# Altium footprint library Robot.PcbLib: 27 footprints (part 1 of 2)
Each footprint in its own frame and in the unit in brackets; x right, y up, seen from the top. Pads: shape width x height; smd on the part's side, far side on the other; paste and mask are expansions set on the pad; w line width, h text height; cw(c..) or ccw(c..) is an arc to the next point about the centre after c.
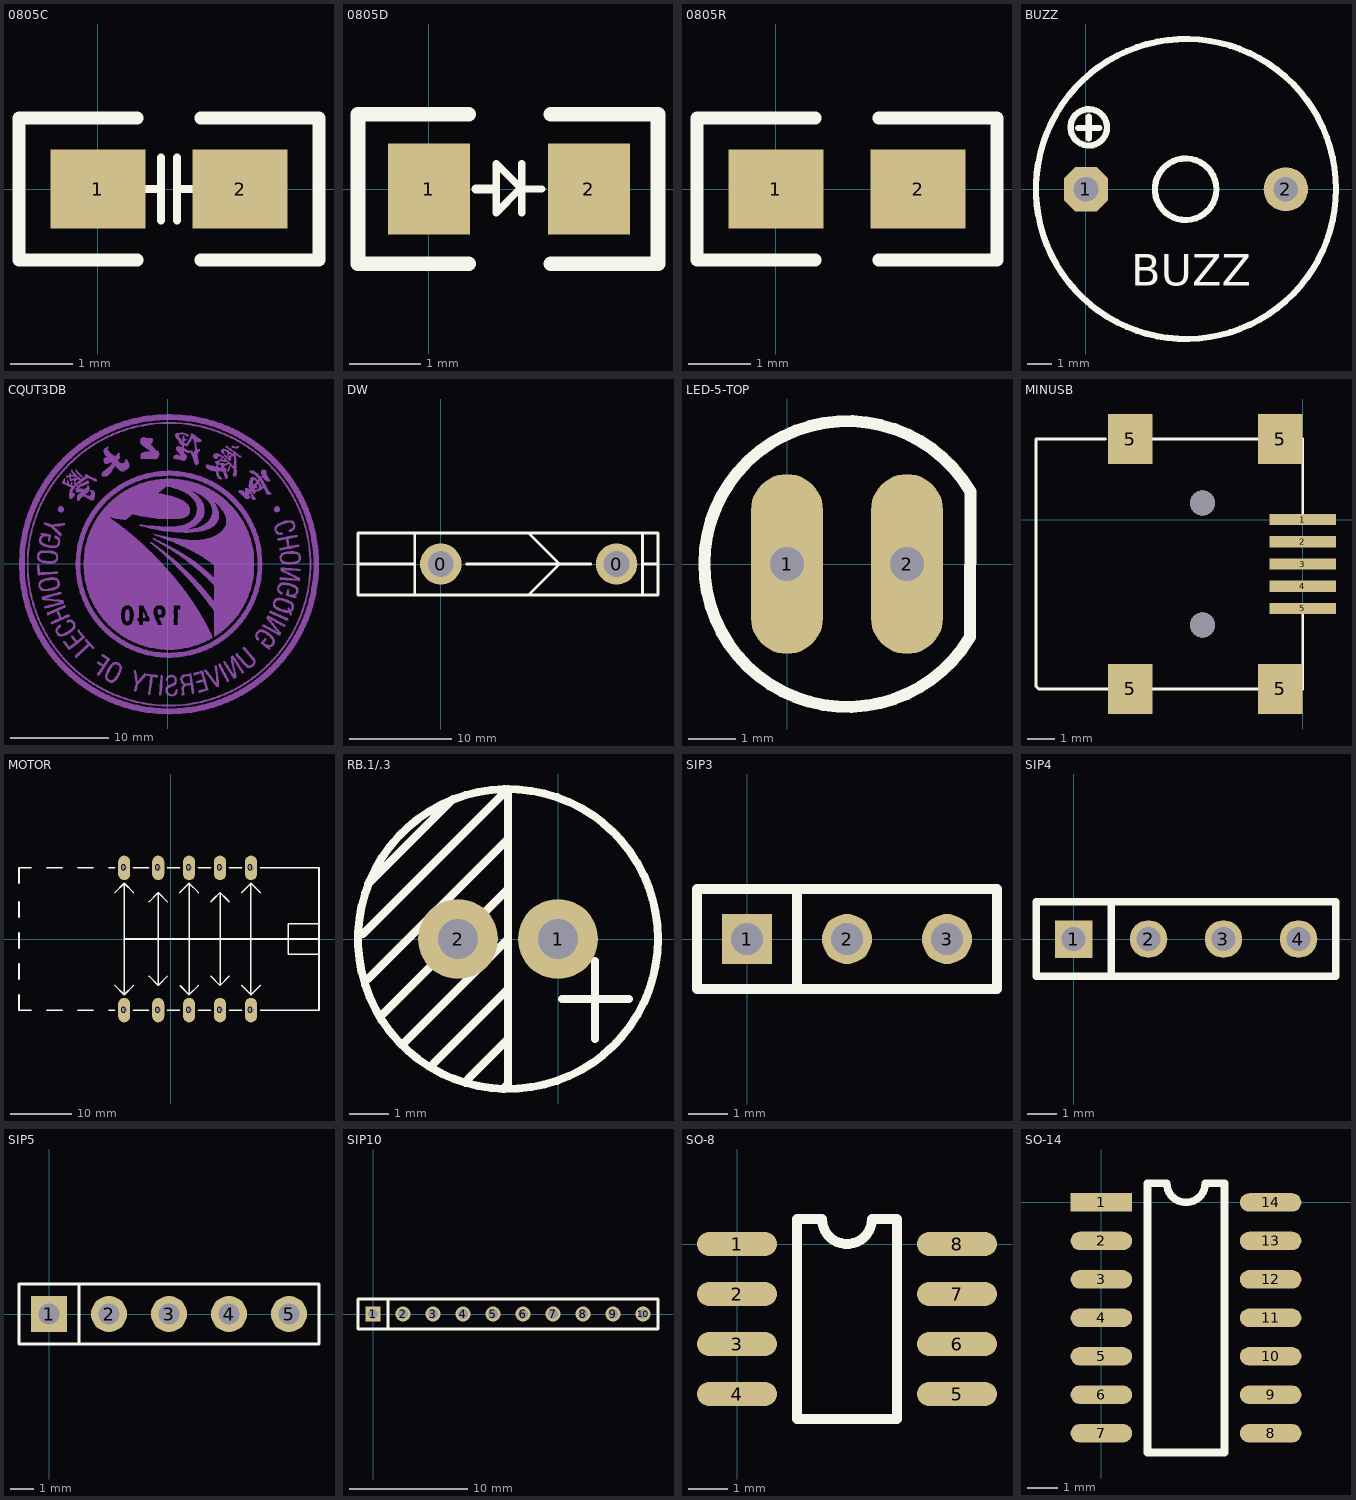
[diagram p0: the footprints below, top view; thin cyan lines are the x and y axes]

## 0805C [mil]
pads (2):
  rect 60x50 smd: 1(0,0) 2(90,0)
Top Overlay:
  lines w5: 30,0 40,0 ; 40,-20 40,20 ; 50,-20 50,20 ; 50,0 60,0
  lines w8: 25,-45 -50,-45 -50,45 25,45 ; 65,-45 140,-45 140,45 65,45

## 0805D [mil]
pads (2):
  rect 45x50 smd: 1(0,0) 2(88,0)
Top Overlay:
  lines w4: 51,-13 51,14 ; 62,0 51,0 ; 51,0 50,0 37,-13 37,14 51,0
  lines w5: 26,0 36,0
  lines w8: 22,-41 -39,-41 -39,41 22,41 ; 67,-41 126,-41 126,41 67,41

## 0805R [mil]
pads (2):
  rect 60x50 smd: 1(0,0) 2(90,0)
Top Overlay:
  lines w8: 25,-45 -50,-45 -50,45 25,45 ; 65,-45 140,-45 140,45 65,45

## BUZZ [mm]
pads (2):
  oct 1.8x1.8 hole 1: 1(0,0)
  round 1.8 hole 1: 2(8.128,0)
Top Overlay:
  circle w0.254: c4.053,0 r1.251
  circle w0.254: c4.067,0.011 r6.1
  circle w0.254: c0.115,2.518 r0.741
  lines w0.254: -0.317,2.492 0.546,2.492 ; 0.115,2.06 0.115,2.949
  text "BUZZ" at 1.838,-3.923 h1.27

## CQUT3DB [mil]
Bottom Overlay:
  drawing of 8113 lines, arcs and shapes, not listed

## DW [mil]
pads (2):
  round 160 hole 100: 0(0,0) 0(680,0)
Top Overlay:
  lines w10: -320,0 -100,0 ; -100,-120 -100,0 ; -100,120 -100,0 ; 100,0 580,0 ; 340,-120 460,0 340,120 ; 780,0 840,0 ; 780,-120 840,-120 840,120 780,120 ; 780,-120 780,120 ; 780,-120 680,-120 0,-120 -320,-120 -320,120 0,120 680,120 780,120

## LED-5-TOP [mil]
pads (2):
  oval 60x150 hole 28: 1(0,0) 2(100,0)
Top Overlay:
  lines w10: 152.53,-60.92 cw(c50.2,0) 152.84,60.4 152.53,-60.91

## MINUSB [mm]
pads (9):
  rect 2.4x0.4 smd: 1(0,0) 2(0,-0.8) 3(0,-1.6) 4(0,-2.4) 5(0,-3.2)
  rect 1.6x1.8 smd: 5(-6.2,-6.1) 5(-6.2,2.9) 5(-0.8,-6.1) 5(-0.8,2.9)
via -3.6,0.6 diameter 0.9 hole 0.9
via -3.6,-3.8 diameter 0.9 hole 0.9
Top Overlay:
  lines w0.1: -7.1,2.9 -9.6,2.9 -9.6,-6 -9.5,-6.1 -7,-6.1 ; -5.4,-6.1 -1.6,-6.1 ; -5.4,2.9 -1.6,2.9 ; 0,-6.1 0,-3.4 ; 0,0.2 0,2.9

## MOTOR [mm]
pads (10):
  oval 2x4 hole 1: 0(-7.62,-11.684) 0(-7.62,11.684) 0(-2.032,-11.684) 0(-2.032,11.684) 0(3.048,-11.684) 0(3.048,11.684) 0(8.128,-11.684) 0(8.128,11.684) 0(13.208,-11.684) 0(13.208,11.684)
Top Overlay:
  lines w0.254: -24.892,-9.144 -24.892,-11.684 -22.86,-11.684 ; -24.892,-6.604 -24.892,-4.064 ; -24.892,-1.524 -24.892,1.016 ; -24.892,3.556 -24.892,6.096 ; -24.892,9.144 -24.892,11.684 -22.86,11.684 ; -20.32,-11.684 -17.78,-11.684 ; -20.32,11.684 -17.78,11.684 ; -15.24,-11.684 -12.7,-11.684 ; -15.24,11.684 -12.7,11.684 ; -10.16,-11.684 -9.144,-11.684 ; -10.16,11.684 -9.144,11.684 ; -9.144,-7.62 -7.62,-9.144 ; -9.144,7.62 -7.62,9.144 ; -7.62,0 24.384,0 ; -6.096,-11.684 -3.556,-11.684 ; -6.096,-7.62 -7.62,-9.144 ; -6.096,7.62 -7.62,9.144 ; -6.096,11.684 -3.556,11.684 ; -3.556,-6.096 -2.032,-7.62 ; -3.556,6.096 -2.032,7.62 ; -0.508,-11.684 1.524,-11.684 ; -0.508,-6.096 -2.032,-7.62 ; -0.508,6.096 -2.032,7.62 ; -0.508,11.684 1.524,11.684 ; 1.524,7.62 3.048,9.144 ; 1.587,-7.683 3.048,-9.144 ; 2.985,-10.097 3.111,-10.097 ; 4.572,-11.684 6.604,-11.684 ; 4.572,-7.62 3.048,-9.144 ; 4.572,7.62 3.048,9.144 ; 4.572,11.684 6.604,11.684 ; 6.604,-6.096 8.128,-7.62 ; 6.604,6.096 7.112,6.604 8.128,7.62 ; 9.652,-11.684 11.684,-11.684 ; 9.652,-6.096 8.128,-7.62 ; 9.652,6.096 9.144,6.604 8.128,7.62 ; 9.652,11.684 11.684,11.684 ; 11.684,-7.62 13.208,-9.144 ; 11.684,7.62 13.208,9.144 ; 14.732,-11.684 24.384,-11.684 24.384,11.684 14.732,11.684 ; 14.732,-7.62 13.208,-9.144 ; 14.732,7.62 13.208,9.144 ; 24.384,-2.54 19.304,-2.54 19.304,2.54 24.384,2.54 ; -7.62,-9.144 -7.62,9.144 ; -2.032,-7.62 -2.032,7.62 ; 3.048,-9.144 3.048,9.144 ; 8.128,-7.62 8.128,7.62 ; 13.208,-9.144 13.208,9.144

## RB.1/.3 [mil]
pads (2):
  round 80 hole 40: 1(0,0) 2(-100,0)
Top Overlay:
  circle w8: c-50,0 r150
  lines w8: -195,5 -50,150 -50,-145 -55,-150 ; -190,-40 -50,100 ; -190,55 -105,140 ; -175,-75 -50,50 ; -155,-105 -50,0 ; -125,-125 -50,-50 ; -90,-140 -50,-100 ; 4,-60 71,-60 ; 37,-100 37,-22

## SIP3 [mil]
pads (3):
  rect 50x50 hole 32: 1(0,0)
  round 50 hole 32: 2(100,0) 3(200,0)
Top Overlay:
  lines w10: 50,-50 50,50 ; -50,-50 250,-50 250,50 -50,50 -50,-50

## SIP4 [mil]
pads (4):
  rect 50x50 hole 32: 1(0,0)
  round 50 hole 32: 2(100,0) 3(200,0) 4(300,0)
Top Overlay:
  lines w10: 50,-50 50,50 ; -50,-50 -50,50 350,50 350,-50 -50,-50

## SIP5 [mil]
pads (5):
  rect 60x60 hole 35: 1(0,0)
  round 60 hole 35: 2(100,0) 3(200,0) 4(300,0) 5(400,0)
Top Overlay:
  lines w5: 50,-50 50,50 ; -50,-50 450,-50 450,50 -50,50 -50,-50

## SIP10 [mil]
pads (10):
  rect 50x50 hole 32: 1(0,0)
  round 50 hole 32: 2(100,0) 3(200,0) 4(300,0) 5(400,0) 6(500,0) 7(600,0) 8(700,0) 9(800,0) 10(900,0)
Top Overlay:
  lines w10: 50,-50 50,50 ; -50,-50 950,-50 950,50 -50,50 -50,-50

## SO-8 [mil]
pads (8):
  oval 80x24 smd: 1(0,0) 2(0,-50) 3(0,-100) 4(0,-150) 5(220,-150) 6(220,-100) 7(220,-50) 8(220,0)
Top Overlay:
  lines w10: 60,-175 160,-175 160,25 135,25 cw(c110,25) 85,25 60,25 60,-175

## SO-14 [mil]
pads (14):
  rect 80x24 smd: 1(0,0)
  oval 80x24 smd: 2(0,-50) 3(0,-100) 4(0,-150) 5(0,-200) 6(0,-250) 7(0,-300) 8(220,-300) 9(220,-250) 10(220,-200) 11(220,-150) 12(220,-100) 13(220,-50) 14(220,0)
Top Overlay:
  lines w10: 60,-325 160,-325 160,25 135,25 cw(c110,25) 85,25 60,25 60,-325